# Altium schematic symbol library fifo.SCHLIB: 15 symbols
Pins are listed as number, name and electrical type; pins without a type are passive.

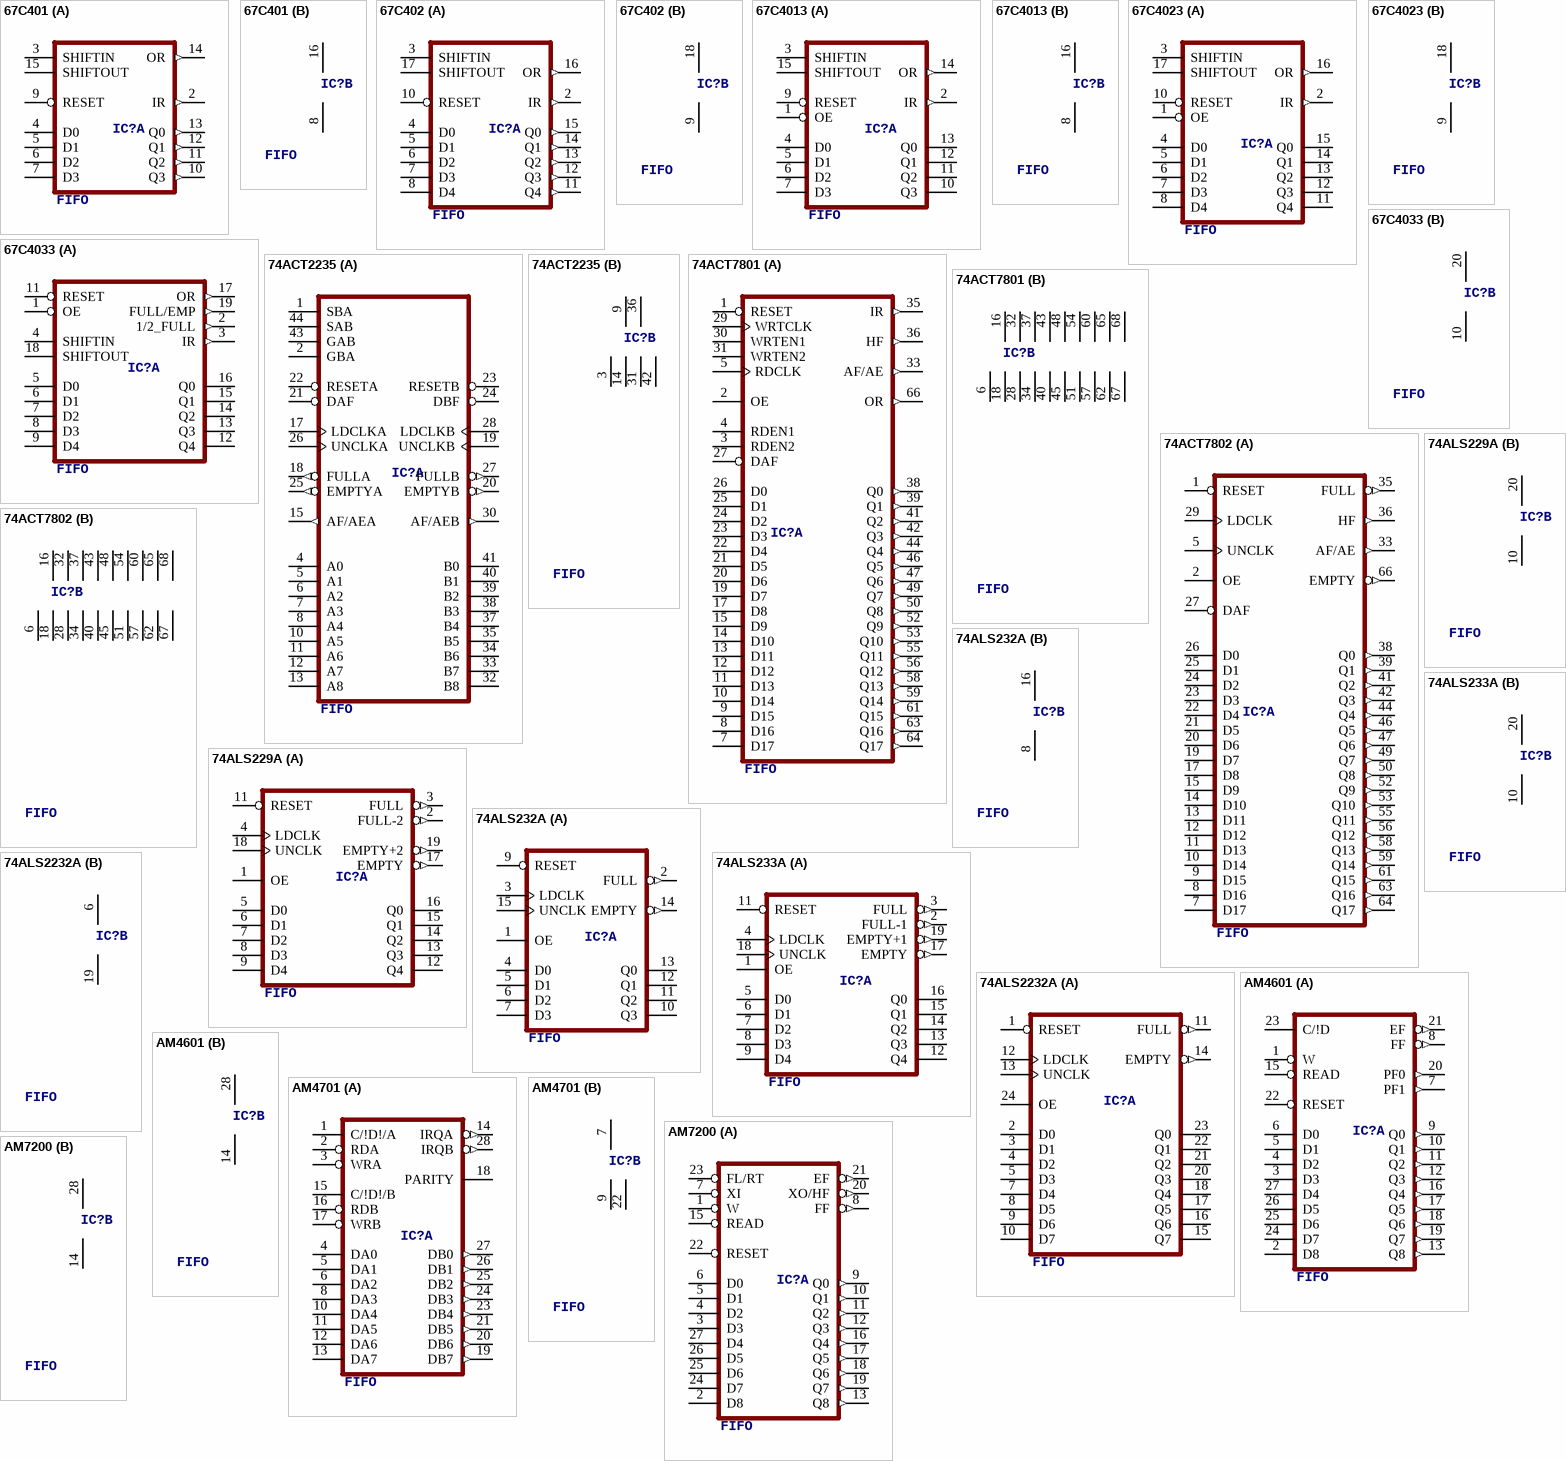
[diagram p0: symbols 67C401 to AM7200]

## 67C401
designator IC?, comment FIFO
OC_FARNELL: unknown; OC_NEWARK: unknown
footprint DIL16
part A pins: 2 IR (out), 3 SHIFTIN, 4 D0, 5 D1, 6 D2, 7 D3, 9 RESET, 10 Q3 (out), 11 Q2 (out), 12 Q1 (out), 13 Q0 (out), 14 OR (out), 15 SHIFTOUT
part B pins: 8 GND (power), 16 VCC (power)

## 67C402
designator IC?, comment FIFO
OC_FARNELL: unknown; OC_NEWARK: unknown
footprint DIL18
part A pins: 2 IR (out), 3 SHIFTIN, 4 D0, 5 D1, 6 D2, 7 D3, 8 D4, 10 RESET, 11 Q4 (out), 12 Q3 (out), 13 Q2 (out), 14 Q1 (out), 15 Q0 (out), 16 OR (out), 17 SHIFTOUT
part B pins: 9 GND (power), 18 VCC (power)

## 67C4013
designator IC?, comment FIFO
OC_FARNELL: unknown; OC_NEWARK: unknown
footprint DIL16
part A pins: 1 OE, 2 IR (out), 3 SHIFTIN, 4 D0, 5 D1, 6 D2, 7 D3, 9 RESET, 10 Q3 (hiz), 11 Q2 (hiz), 12 Q1 (hiz), 13 Q0 (hiz), 14 OR (out), 15 SHIFTOUT
part B pins: 8 GND (power), 16 VCC (power)

## 67C4023
designator IC?, comment FIFO
OC_FARNELL: unknown; OC_NEWARK: unknown
footprint DIL18
part A pins: 1 OE, 2 IR (out), 3 SHIFTIN, 4 D0, 5 D1, 6 D2, 7 D3, 8 D4, 10 RESET, 11 Q4 (hiz), 12 Q3 (hiz), 13 Q2 (hiz), 14 Q1 (hiz), 15 Q0 (hiz), 16 OR (out), 17 SHIFTOUT
part B pins: 9 GND (power), 18 VCC (power)

## 67C4033
designator IC?, comment FIFO
OC_FARNELL: unknown; OC_NEWARK: unknown
footprint DIL20
part A pins: 1 OE, 2 1/2_FULL (out), 3 IR (out), 4 SHIFTIN, 5 D0, 6 D1, 7 D2, 8 D3, 9 D4, 11 RESET, 12 Q4 (hiz), 13 Q3 (hiz), 14 Q2 (hiz), 15 Q1 (hiz), 16 Q0 (hiz), 17 OR (out), 18 SHIFTOUT, 19 FULL/EMP (out)
part B pins: 10 GND (power), 20 VCC (power)

## 74ACT2235
designator IC?, comment FIFO
MPN: SN74ACT2235-40FN; MF: TEXAS INSTRUMENT CONNECTORS; OC_FARNELL: unknown; OC_NEWARK: 52F2469
footprint PLCC44
part A pins: 1 SBA, 2 GBA, 4 A0, 5 A1, 6 A2, 7 A3, 8 A4, 10 A5, 11 A6, 12 A7, 13 A8, 15 AF/AEA (out), 17 LDCLKA, 18 FULLA (out), 19 UNCLKB, 20 EMPTYB (out), 21 DAF, 22 RESETA, 23 RESETB, 24 DBF, 25 EMPTYA (out), 26 UNCLKA, 27 FULLB (out), 28 LDCLKB, 30 AF/AEB (out), 32 B8, 33 B7, 34 B6, 35 B5, 37 B4, 38 B3, 39 B2, 40 B1, 41 B0, 43 GAB, 44 SAB
part B pins: 3 GND@1 (power), 9 VCC@1 (power), 14 GND@2 (power), 31 GND@3 (power), 36 VCC@2 (power), 42 GND@4 (power)

## 74ACT7801
designator IC?, comment FIFO
MPN: SN74ACT7801-15FN; MF: TEXAS INSTRUMENT CONNECTORS; OC_FARNELL: unknown; OC_NEWARK: 08F5923
footprint PLCC68
part A pins: 1 RESET, 2 OE, 3 RDEN2, 4 RDEN1, 5 RDCLK, 7 D17, 8 D16, 9 D15, 10 D14, 11 D13, 12 D12, 13 D11, 14 D10, 15 D9, 17 D8, 19 D7, 20 D6, 21 D5, 22 D4, 23 D3, 24 D2, 25 D1, 26 D0, 27 DAF, 29 WRTCLK, 30 WRTEN1, 31 WRTEN2, 33 AF/AE (out), 35 IR (out), 36 HF (out), 38 Q0 (out), 39 Q1 (out), 41 Q2 (out), 42 Q3 (out), 44 Q4 (out), 46 Q5 (out), 47 Q6 (out), 49 Q7 (out), 50 Q8 (out), 52 Q9 (out), 53 Q10 (out), 55 Q11 (out), 56 Q12 (out), 58 Q13 (out), 59 Q14 (out), 61 Q15 (out), 63 Q16 (out), 64 Q17 (out), 66 OR (out)
part B pins: 6 GND@1 (power), 16 VCC@1 (power), 18 GND@2 (power), 28 GND@3 (power), 32 VCC@2 (power), 34 GND@4 (power), 37 VCC@3 (power), 40 GND@5 (power), 43 VCC@4 (power), 45 GND@6 (power), 48 VCC@5 (power), 51 GND@7 (power), 54 VCC@6 (power), 57 GND@8 (power), 60 VCC@7 (power), 62 GND@9 (power), 65 VCC@8 (power), 67 GND@10 (power), 68 VCC@9 (power)

## 74ACT7802
designator IC?, comment FIFO
MPN: SN74ACT7802-25FN; MF: TEXAS INSTRUMENT CONNECTORS; OC_FARNELL: unknown; OC_NEWARK: 76C1297
footprint PLCC68
part A pins: 1 RESET, 2 OE, 5 UNCLK, 7 D17, 8 D16, 9 D15, 10 D14, 11 D13, 12 D12, 13 D11, 14 D10, 15 D9, 17 D8, 19 D7, 20 D6, 21 D5, 22 D4, 23 D3, 24 D2, 25 D1, 26 D0, 27 DAF, 29 LDCLK, 33 AF/AE (out), 35 FULL (out), 36 HF (out), 38 Q0 (out), 39 Q1 (out), 41 Q2 (out), 42 Q3 (out), 44 Q4 (out), 46 Q5 (out), 47 Q6 (out), 49 Q7 (out), 50 Q8 (out), 52 Q9 (out), 53 Q10 (out), 55 Q11 (out), 56 Q12 (out), 58 Q13 (out), 59 Q14 (out), 61 Q15 (out), 63 Q16 (out), 64 Q17 (out), 66 EMPTY (out)
part B pins: 6 GND@1 (power), 16 VCC@1 (power), 18 GND@2 (power), 28 GND@3 (power), 32 VCC@2 (power), 34 GND@4 (power), 37 VCC@3 (power), 40 GND@5 (power), 43 VCC@4 (power), 45 GND@6 (power), 48 VCC@5 (power), 51 GND@7 (power), 54 VCC@6 (power), 57 GND@8 (power), 60 VCC@7 (power), 62 GND@9 (power), 65 VCC@8 (power), 67 GND@10 (power), 68 VCC@9 (power)

## 74ALS229A
designator IC?, comment FIFO
OC_FARNELL: unknown; OC_NEWARK: unknown
footprint DIL20
part A pins: 1 OE, 2 FULL-2 (out), 3 FULL (out), 4 LDCLK, 5 D0, 6 D1, 7 D2, 8 D3, 9 D4, 11 RESET, 12 Q4 (hiz), 13 Q3 (hiz), 14 Q2 (hiz), 15 Q1 (hiz), 16 Q0 (hiz), 17 EMPTY (out), 18 UNCLK, 19 EMPTY+2 (out)
part B pins: 10 GND (power), 20 VCC (power)

## 74ALS232A
designator IC?, comment FIFO
OC_FARNELL: unknown; OC_NEWARK: unknown
footprint DIL16
part A pins: 1 OE, 2 FULL (out), 3 LDCLK, 4 D0, 5 D1, 6 D2, 7 D3, 9 RESET, 10 Q3 (hiz), 11 Q2 (hiz), 12 Q1 (hiz), 13 Q0 (hiz), 14 EMPTY (out), 15 UNCLK
part B pins: 8 GND (power), 16 VCC (power)

## 74ALS233A
designator IC?, comment FIFO
OC_FARNELL: unknown; OC_NEWARK: unknown
footprint DIL20
part A pins: 1 OE, 2 FULL-1 (out), 3 FULL (out), 4 LDCLK, 5 D0, 6 D1, 7 D2, 8 D3, 9 D4, 11 RESET, 12 Q4 (hiz), 13 Q3 (hiz), 14 Q2 (hiz), 15 Q1 (hiz), 16 Q0 (hiz), 17 EMPTY (out), 18 UNCLK, 19 EMPTY+1 (out)
part B pins: 10 GND (power), 20 VCC (power)

## 74ALS2232A
designator IC?, comment FIFO
OC_FARNELL: unknown; OC_NEWARK: unknown
footprint DIL24-3
part A pins: 1 RESET, 2 D0, 3 D1, 4 D2, 5 D3, 7 D4, 8 D5, 9 D6, 10 D7, 11 FULL (out), 12 LDCLK, 13 UNCLK, 14 EMPTY (out), 15 Q7 (hiz), 16 Q6 (hiz), 17 Q5 (hiz), 18 Q4 (hiz), 20 Q3 (hiz), 21 Q2 (hiz), 22 Q1 (hiz), 23 Q0 (hiz), 24 OE
part B pins: 6 VCC (power), 19 GND (power)

## AM4601
designator IC?, comment FIFO
OC_FARNELL: unknown; OC_NEWARK: unknown
footprint DIL28-3
part A pins: 1 W, 2 D8, 3 D3, 4 D2, 5 D1, 6 D0, 7 PF1 (out), 8 FF (out), 9 Q0 (out), 10 Q1 (out), 11 Q2 (out), 12 Q3 (out), 13 Q8 (out), 15 READ, 16 Q4 (out), 17 Q5 (out), 18 Q6 (out), 19 Q7 (out), 20 PF0 (out), 21 EF (out), 22 RESET, 23 C/!D, 24 D7, 25 D6, 26 D5, 27 D4
part B pins: 14 GND (power), 28 VCC (power)

## AM4701
designator IC?, comment FIFO
OC_FARNELL: unknown; OC_NEWARK: unknown
footprint DIL28-3
part A pins: 1 C/!D!/A, 2 RDA, 3 WRA, 4 DA0, 5 DA1, 6 DA2, 8 DA3, 10 DA4, 11 DA5, 12 DA6, 13 DA7, 14 IRQA (out), 15 C/!D!/B, 16 RDB, 17 WRB, 18 PARITY, 19 DB7 (out), 20 DB6 (out), 21 DB5 (out), 23 DB4 (out), 24 DB3 (out), 25 DB2 (out), 26 DB1 (out), 27 DB0 (out), 28 IRQB (out)
part B pins: 7 VCC (power), 9 GND@1 (power), 22 GND@2 (power)

## AM7200
designator IC?, comment FIFO
OC_FARNELL: unknown; OC_NEWARK: unknown
footprint DIL28-3
part A pins: 1 W, 2 D8, 3 D3, 4 D2, 5 D1, 6 D0, 7 XI, 8 FF (out), 9 Q0 (out), 10 Q1 (out), 11 Q2 (out), 12 Q3 (out), 13 Q8 (out), 15 READ, 16 Q4 (out), 17 Q5 (out), 18 Q6 (out), 19 Q7 (out), 20 XO/HF (out), 21 EF (out), 22 RESET, 23 FL/RT, 24 D7, 25 D6, 26 D5, 27 D4
part B pins: 14 GND (power), 28 VCC (power)